# Altium schematic symbol library 0603 200pF 50V.Schlib: 1 symbol
Pins are listed as number, name and electrical type; pins without a type are passive.

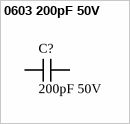
[diagram p0: symbol 0603 200pF 50V]

## 0603 200pF 50V
designator C?, comment value 200pF 50V  (hidden comment: Capacitor)
200pF 50V 0603 Multilayer Ceramic Capacitors MLCC - SMD/SMT RoHS; LCSC Part #: C1600
footprint CAP 0603_1608 (Chip Capacitor, 2-Leads, Body 1.60x0.80mm, IPC Medium Density)
pins: 1, 2